# Altium schematic symbol library MKDVXGIL-AST.SchLib: 1 symbol
Pins are listed as number, name and electrical type; pins without a type are passive.

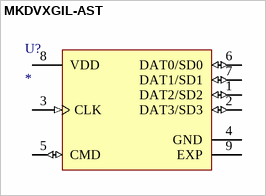
[diagram p0: symbol MKDVXGIL-AST]

## MKDVXGIL-AST
designator U?
Value: *
pins: 1 DAT2/SD2 (io), 2 DAT3/SD3 (io), 3 CLK (in), 4 GND (power), 5 CMD (io), 6 DAT0/SD0 (io), 7 DAT1/SD1 (io), 8 VDD (power), 9 EXP (power)